# Altium schematic symbol library SCH - DRIVER - MOTOR - TRINAMIC TMC5160A-WA.SCHLIB: 1 symbol
Pins are listed as number, name and electrical type; pins without a type are passive.

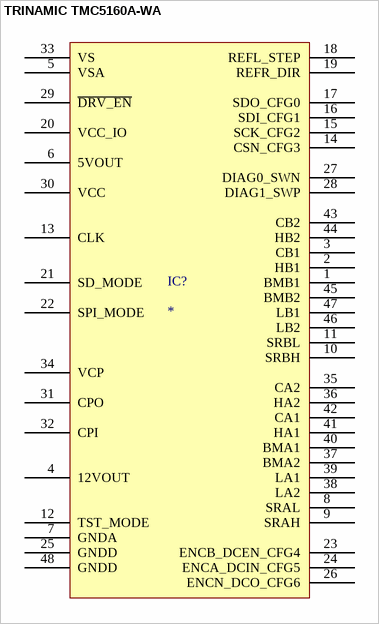
[diagram p0: symbol TRINAMIC TMC5160A-WA]

## TRINAMIC TMC5160A-WA
designator IC?
pins: 1 BMB1, 2 HB1, 3 CB1, 4 12VOUT, 5 VSA, 6 5VOUT, 7 GNDA, 8 SRAL, 9 SRAH, 10 SRBH, 11 SRBL, 12 TST_MODE, 13 CLK, 14 CSN_CFG3, 15 SCK_CFG2, 16 SDI_CFG1, 17 SDO_CFG0, 18 REFL_STEP, 19 REFR_DIR, 20 VCC_IO, 21 SD_MODE, 22 SPI_MODE, 23 ENCB_DCEN_CFG4, 24 ENCA_DCIN_CFG5, 25 GNDD, 26 ENCN_DCO_CFG6, 27 DIAG0_SWN, 28 DIAG1_SWP, 29 ~{DRV_EN}, 30 VCC, 31 CPO, 32 CPI, 33 VS, 34 VCP, 35 CA2, 36 HA2, 37 BMA2, 38 LA2, 39 LA1, 40 BMA1, 41 HA1, 42 CA1, 43 CB2, 44 HB2, 45 BMB2, 46 LB2, 47 LB1, 48 GNDD